# Altium footprint library Button_Switch_THT.PcbLib: 8 footprints
Each footprint in its own frame and in the unit in brackets; x right, y up, seen from the top. Pads: shape width x height; smd on the part's side, far side on the other; paste and mask are expansions set on the pad; w line width, h text height; cw(c..) or ccw(c..) is an arc to the next point about the centre after c.
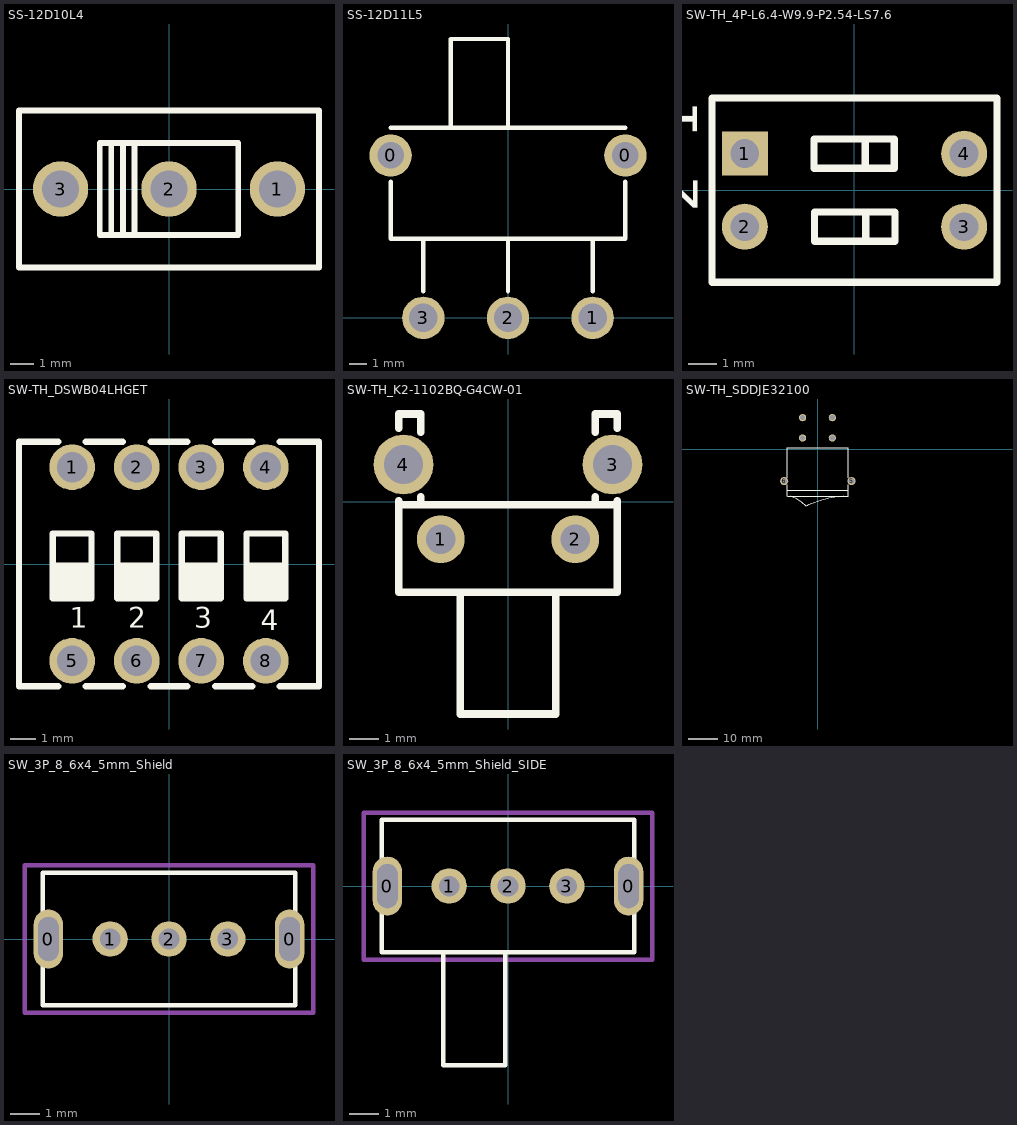
[diagram p0: the footprints below, top view; thin cyan lines are the x and y axes]

## SS-12D10L4 [mm]
pads (3):
  round 2.4 hole 1.6: 1(4.7,0) 2(0,0) 3(-4.7,0)
Top Overlay:
  lines w0.254: -2.5,-2 -2.5,2 ; -2,-2 -2,2 ; -1.5,-2 -1.5,2 ; -6.5,-3.4 -6.5,3.4 6.5,3.4 6.5,-3.4 -6.5,-3.4 ; -3,-2 -3,2 3,2 3,-2 -3,-2
3D body "ss-12d10l4.stp": height 12.4, standoff -4.9, extent -6.5,-3.4 6.5,3.4

## SS-12D11L5 [mm]
pads (5):
  round 2.4 hole 1.5: 0(-6.65,9.2) 0(6.65,9.2)
  round 2.4 hole 1.6: 1(4.8,0) 2(0,0) 3(-4.8,0)
Top Overlay:
  lines w0.254: -6.65,7.7 -6.65,4.48 6.65,4.48 6.65,7.7 ; -6.65,10.78 6.65,10.78 ; -4.8,1.5 -4.8,4.48 ; 0,1.5 0,4.48 ; 4.8,1.5 4.8,4.48 ; -3.25,10.78 0,10.78 0,15.8 -3.25,15.8 -3.25,10.78
Mechanical 15:
  lines w0.254: 6.65,8.5 6.65,9.2

## SW-TH_4P-L6.4-W9.9-P2.54-LS7.6 [mm]
pads (4):
  rect 1.6x1.524 hole 1: 1(-3.81,1.27)
  round 1.6 hole 1: 2(-3.81,-1.27) 3(3.81,-1.27) 4(3.81,1.27)
Top Overlay:
  lines w0.254: 0.371,0.889 0.371,1.778 ; 0.391,-1.651 0.391,-0.762 ; -4.953,-3.2 4.953,-3.2 4.953,3.2 -4.953,3.2 -4.953,-3.2 ; -1.407,0.762 -1.407,1.778 1.387,1.778 1.387,0.762 -1.407,0.762 ; -1.387,-1.778 -1.387,-0.762 1.407,-0.762 1.407,-1.778 -1.387,-1.778
  text "1" at -5.473,1.778 h1.5
  text "2" at -5.453,-0.762 h1.5

## SW-TH_DSWB04LHGET [mm]
pads (8):
  round 1.8 hole 1.2: 1(-3.81,3.81) 2(-1.27,3.81) 3(1.27,3.81) 4(3.81,3.81) 5(-3.81,-3.81) 6(-1.27,-3.81) 7(1.27,-3.81) 8(3.81,-3.81)
Top Overlay:
  lines w0.254: -4.572,-1.087 -3.048,-1.087 ; -4.572,-0.833 -3.048,-0.833 ; -4.572,-0.579 -3.048,-0.579 ; -4.572,-0.325 -3.048,-0.325 ; -4.572,-0.071 -3.048,-0.071 ; -4.354,-4.8 -5.9,-4.8 -5.9,4.8 -4.354,4.8 ; -3.266,-4.8 -1.814,-4.8 ; -3.266,4.8 -1.814,4.8 ; -2.032,-1.087 -0.508,-1.087 ; -2.032,-0.833 -0.508,-0.833 ; -2.032,-0.579 -0.508,-0.579 ; -2.032,-0.325 -0.508,-0.325 ; -2.032,-0.071 -0.508,-0.071 ; -0.726,-4.8 0.726,-4.8 ; -0.726,4.8 0.726,4.8 ; 0.508,-1.087 2.032,-1.087 ; 0.508,-0.833 2.032,-0.833 ; 0.508,-0.579 2.032,-0.579 ; 0.508,-0.325 2.032,-0.325 ; 0.508,-0.071 2.032,-0.071 ; 1.814,-4.8 3.266,-4.8 ; 1.814,4.8 3.266,4.8 ; 3.048,-1.087 4.572,-1.087 ; 3.048,-0.833 4.572,-0.833 ; 3.048,-0.579 4.572,-0.579 ; 3.048,-0.325 4.572,-0.325 ; 3.048,-0.071 4.572,-0.071 ; 4.354,-4.8 5.9,-4.8 5.9,4.8 4.354,4.8 ; -4.572,-1.341 -3.048,-1.341 -3.048,1.199 -4.572,1.199 -4.572,-1.341 ; -2.032,-1.341 -0.508,-1.341 -0.508,1.199 -2.032,1.199 -2.032,-1.341 ; 0.508,-1.341 2.032,-1.341 2.032,1.199 0.508,1.199 0.508,-1.341 ; 3.048,-1.341 4.572,-1.341 4.572,1.199 3.048,1.199 3.048,-1.341
  text "1" at -3.9,-2.5 h0.8
  text "2" at -1.6,-2.5 h0.8
  text "3" at 1,-2.5 h0.8
  text "4" at 3.6,-2.6 h0.8

## SW-TH_K2-1102BQ-G4CW-01 [mm]
pads (4):
  round 1.6 hole 1: 1(-2.25,-1.25) 2(2.25,-1.25)
  round 2 hole 1.3: 3(3.5,1.25) 4(-3.5,1.25)
Top Overlay:
  lines w0.254: -3.65,0.028 -3.65,-0.1 ; -3.65,2.472 -3.65,2.941 -2.921,2.941 -2.921,2.336 ; -2.921,-0.1 -2.921,0.164 ; -1.6,-3.028 -1.6,-7.1 1.6,-7.1 1.6,-3.028 ; 2.921,-0.1 2.921,0.164 ; 2.921,2.336 2.921,2.941 3.65,2.941 3.65,2.472 ; 3.65,0.028 3.65,-0.1 ; -3.65,-0.1 3.65,-0.1 ; -3.65,-0.1 -3.65,-3.028 3.65,-3.028 3.65,-0.1

## SW-TH_SDDJE32100 [mm]
pads (6):
  round 2.5 hole 1.8: 1(5,3.925) 2(-5.25,3.925) 3(-5.25,10.925) 4(5,10.925)
  round 2.8 hole 2: 5(11.6,-10.925) 6(-11.6,-10.925)
Top Overlay:
  lines w0.254: -10.5,-16.175 -10.5,-14.175 ; -10.5,-12.128 -10.5,-14.175 ; -10.5,-9.721 -10.5,0.5 10.5,0.5 10.5,-9.721 ; -10.414,-16.175 10.5,-16.175 10.5,-14.175 ; -9.558,-16.175 cw(c-14.409,-30.323) -4.008,-19.575 cw(c11.874,-53.639) 8.88,-16.174 ; 10.5,-12.128 10.5,-14.175 ; -10.5,-14.175 10.5,-14.175

## SW_3P_8_6x4_5mm_Shield [mm]
pads (5):
  oval 1x2 hole 0.7 slot 1.5 at 90 deg: 0(-4.1,0) 0(4.1,0)
  round 1.2 hole 0.7: 1(-2,0) 2(0,0) 3(2,0)
Top Overlay:
  lines w0.152: -4.3,-2.25 4.3,-2.25 4.3,2.25 -4.3,2.25 -4.3,-2.25
Mechanical 15:
  lines w0.152: -4.9,-2.5 4.9,-2.5 4.9,2.5 -4.9,2.5 -4.9,-2.5
3D body "User Library-MiniSwitch-2.STEP": height 8.7, standoff -2.8, extent -4.3,-2.25 4.3,2.25

## SW_3P_8_6x4_5mm_Shield_SIDE [mm]
pads (5):
  oval 1x2 hole 0.7 slot 1.5 at 90 deg: 0(-4.1,0) 0(4.1,0)
  round 1.2 hole 0.7: 1(-2,0) 2(0,0) 3(2,0)
Top Overlay:
  lines w0.152: -2.2,-2.25 -2.2,-6.1 -0.1,-6.1 -0.1,-2.25 ; -4.3,-2.25 -4.3,2.25 4.3,2.25 4.3,-2.25 -4.3,-2.25
Mechanical 15:
  lines w0.152: -4.9,-2.5 -4.9,2.5 4.9,2.5 4.9,-2.5 -4.9,-2.5
3D body "User Library-CK_Slide.STEP": height 4.8, standoff -2.69, extent -4.305,-6.172 4.305,2.2